# EAGLE library part SPPH420100 (library SPPH420100)
Double Pole Double Throw (DPDT) Latching Push Button Switch, PCB, 30V dc Source: Datasheet <http://uk.rs-online.com/web/p/products/1239052>
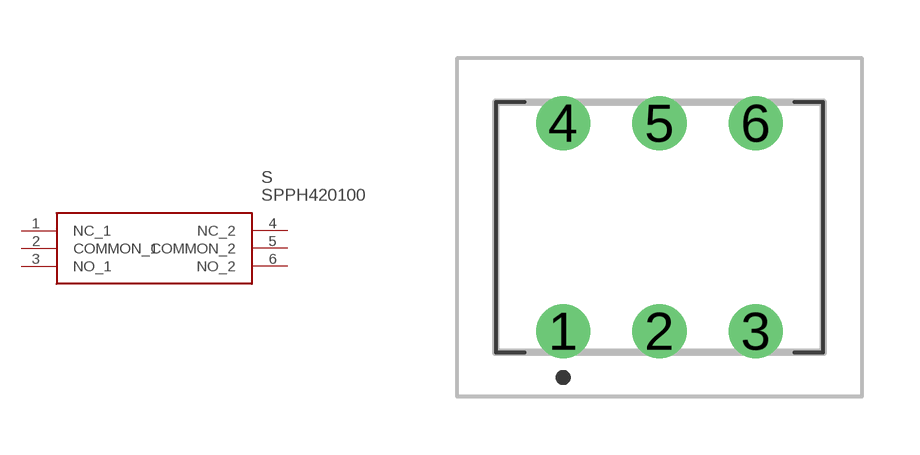
[diagram p0: symbol with the pads of SPPH420100; footprint SPPH420100]

Designator prefix S

## SPPH420100 (Description: Double Pole Double Throw (DPDT) Latching Push Button Switch, PCB, 30V dc; Height: 18mm; Manufacturer_Name: ALPS Electric; Manufacturer_Part_Number: SPPH420100; RS_Part_Number: 1239052; RS_Price-Stock: http://uk.rs-online.com/web/p/products/1239052)  [SPPH420100]
1  NC_1
2  COMMON_1
3  NO_1
4  NC_2
5  COMMON_2
6  NO_2

## Footprint SPPH420100 (pad centres in mm)
SPPH420100-2
drill 0.9 pad 1.4: 1 0,0; 2 2.5,0; 3 5,0; 4 0,5.4; 5 2.5,5.4; 6 5,5.4